# EAGLE library part ATMEGA48A/PA/88A/PA/168A/PA/328/P(28PIN) (library MCUs)
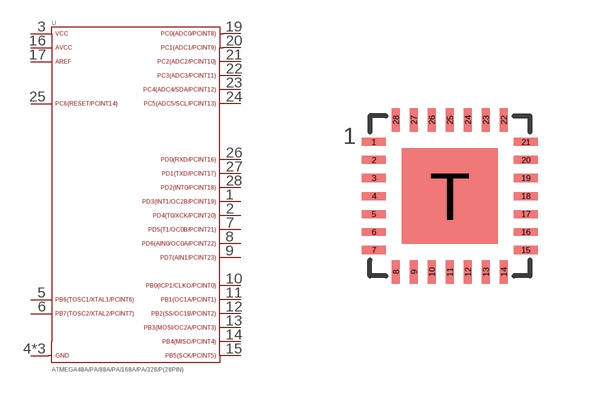
[diagram p11: symbol with the pads of VQFN-28; footprint VQFN-28]

Designator prefix U

## ATMEGA48A/PA/88A/PA/168A/PA/328/P(28PIN)_28VQFN  [VQFN-28]
1  PD3  pas
2  PD4  pas
3  VCC  pas
4  GND  pas
5  PB6  pas
6  PB7  pas
7  PD5  pas
8  PD6  pas
9  PD7  pas
10  PB0  pas
11  PB1  pas
12  PB2  pas
13  PB3  pas
14  PB4  pas
15  PB5  pas
16  AVCC  pas
17  AREF  pas
18  GND  pas
19  PC0  pas
20  PC1  pas
21  PC2  pas
22  PC3  pas
23  PC4  pas
24  PC5  pas
25  PC6  pas
26  PD0  pas
27  PD1  pas
28  PD2  pas
T  GND  pas

## Footprint VQFN-28 (pad centres in mm)
smd 0.6 x 0.2: 1 -1.9,1.35; 2 -1.9,0.9; 3 -1.9,0.45; 4 -1.9,0; 5 -1.9,-0.45; 6 -1.9,-0.9; 7 -1.9,-1.35; 15 1.9,-1.35; 16 1.9,-0.9; 17 1.9,-0.45; 18 1.9,0; 19 1.9,0.45; 20 1.9,0.9; 21 1.9,1.35
smd 0.2 x 0.6: 8 -1.35,-1.9; 9 -0.9,-1.9; 10 -0.45,-1.9; 11 0,-1.9; 12 0.45,-1.9; 13 0.9,-1.9; 14 1.35,-1.9; 22 1.35,1.9; 23 0.9,1.9; 24 0.45,1.9; 25 0,1.9; 26 -0.45,1.9; 27 -0.9,1.9; 28 -1.35,1.9
smd 2.4 x 2.4: T 0,0